# Altium footprint library INF-SOT89_M.PcbLib: 1 footprints
Each footprint in its own frame and in the unit in brackets; x right, y up, seen from the top. Pads: shape width x height; smd on the part's side, far side on the other; paste and mask are expansions set on the pad; w line width, h text height; cw(c..) or ccw(c..) is an arc to the next point about the centre after c.
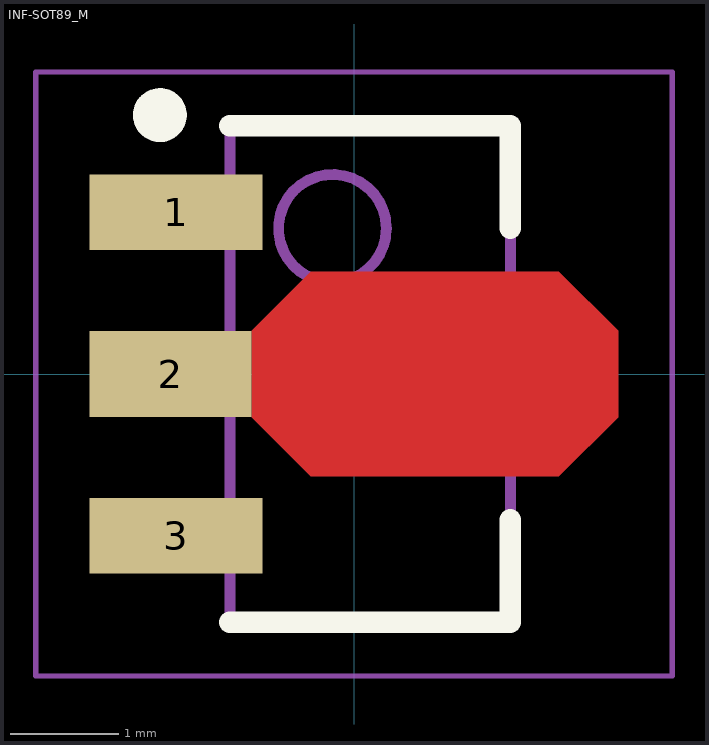
[diagram p0: the footprint, top view; thin cyan lines are the x and y axes]

## INF-SOT89_M [mm] "SOT89, 3-Leads, Body 4.5x2.5 mm, Pitch 1.5 mm, IPC Low Density"
height 1.6
pads (3):
  rect 1.6x0.7 smd: 1(-1.65,1.5) 3(-1.65,-1.5)
  rect 1.5x0.8 smd: 2(-1.7,0)
Top Layer:
  region: -0.95,0.4 -0.4,0.95 1.9,0.95 2.45,0.4 2.45,-0.4 1.9,-0.95 -0.4,-0.95 -0.95,-0.4
Top Overlay:
  circle w0.25: c-1.8,2.4 r0.125
  lines w0.2: -1.15,-2.3 1.45,-2.3 1.45,-1.35 ; -1.15,2.3 1.45,2.3 1.45,1.35
Mechanical 13:
  circle w0.1: c-0.2,1.35 r0.5
  lines w0.1: -1.15,-2.3 -1.15,2.3 1.45,2.3 1.45,-2.3 -1.15,-2.3
Mechanical 15:
  lines w0.05: -2.95,-2.8 -2.95,2.8 2.95,2.8 2.95,-2.8 -2.95,-2.8
  lines w0.1: -0.35,0 0.65,0 ; 0.15,-0.5 0.15,0.5
3D body: height 1.6, standoff 0, extent -1.15,-2.3 1.45,2.3